# Altium footprint library 21136NA.PcbLib: 1 footprints
Each footprint in its own frame and in the unit in brackets; x right, y up, seen from the top. Pads: shape width x height; smd on the part's side, far side on the other; paste and mask are expansions set on the pad; w line width, h text height; cw(c..) or ccw(c..) is an arc to the next point about the centre after c.
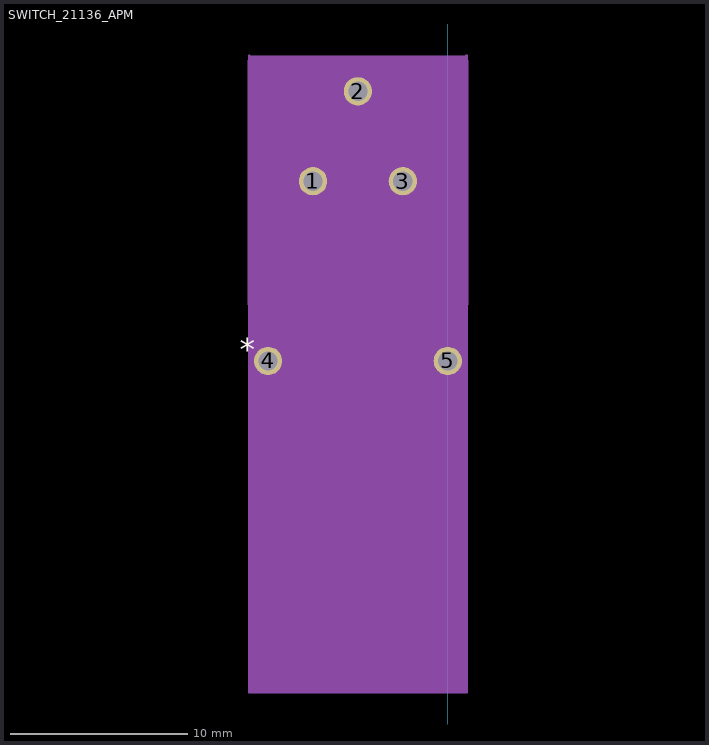
[diagram p0: the footprint, top view; thin cyan lines are the x and y axes]

## SWITCH_21136_APM [mil]
pads (5):
  round 63 hole 43: 1(-300,-938) 2(-200,-738) 3(-100,-938) 4(-400,-1338) 5(0,-1338)
Top Overlay:
  text "*" at -462.5,-1338 h50
Mechanical 5:
  region: -445,-1213 45,-1213 45,-669 -445,-669
Mechanical 13:
  lines w1: -400,-1338 -400,-2065 0,-2065 0,-1338 ; -416.5,-1338 16.5,-1338 16.5,-669 -416.5,-669 -416.5,-1338
  text "*" at -462.5,-1388 h50
Mechanical 15:
  region: 41.5,-659 -441.5,-659 -441.5,-2075 41.5,-2075
  lines w6: -441.5,-659 -441.5,-2075 41.5,-2075 41.5,-659
3D body "2113xN v1.step": height 428.35, standoff -16.54, extent -418.11,-2087.68 14.96,-670.35